# Altium schematic symbol library ANTEN.SchLib: 1 symbol
Pins are listed as number, name and electrical type; pins without a type are passive.

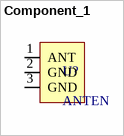
[diagram p0: symbol Component_1]

## Component_1
designator U?, comment ANTEN
footprint SOT150P320X110-3N (SOT23, 3-Leads, Body 3.00x3.20mm, Pitch 1.50mm, IPC Medium Density)
pins: 1 ANT, 2 GND, 3 GND